# EAGLE library part RT868F4 (library andereBauteile)
RT868F4 Funkmodul
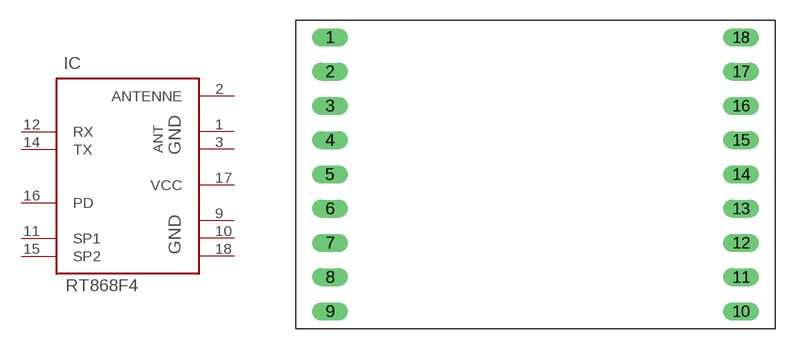
[diagram p34: symbol with the pads of RT868F4; footprint RT868F4]

Designator prefix IC

## RT868F4  [RT868F4]
1  GND  pwr
2  ANTENNE  pwr
3  GND  pwr
9  GND  pwr
10  GND  pwr
11  SP1  in
12  RX  out
14  TX  in
15  SP2  in
16  PD  in
17  VCC  pwr
18  GND  pwr

## Footprint RT868F4 (pad centres in mm)
drill 0.813 long: 1 -15.24,10.16; 2 -15.24,7.62; 3 -15.24,5.08; 4 -15.24,2.54; 5 -15.24,0; 6 -15.24,-2.54; 7 -15.24,-5.08; 8 -15.24,-7.62; 9 -15.24,-10.16; 10 15.24,-10.16; 11 15.24,-7.62; 12 15.24,-5.08; 13 15.24,-2.54; 14 15.24,0; 15 15.24,2.54; 16 15.24,5.08; 17 15.24,7.62; 18 15.24,10.16